# EAGLE library part ORG447X (library X893)
http://www.origingps.com/Download.aspx?fid=82
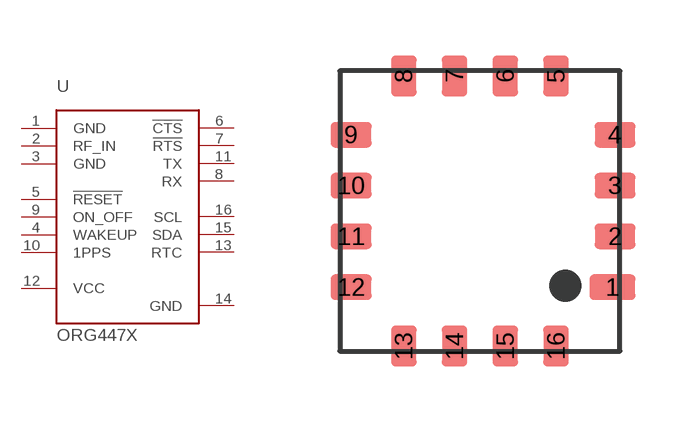
[diagram p155: symbol with the pads of ORG447X; footprint ORG447X]

Designator prefix U

## ORG447X  [ORG447X]
1  GND
2  RF_IN
3  GND
4  WAKEUP
5  !RESET
6  !CTS
7  !RTS
8  RX
9  ON_OFF
10  1PPS
11  TX
12  VCC
13  RTC
14  GND
15  SDA
16  SCL

## Footprint ORG447X (pad centres in mm)
smd 1.143 x 0.635: 1 3.314,-1.905
smd 1.016 x 0.635: 2 3.377,-0.635; 3 3.377,0.635; 4 3.377,1.905; 9 -3.223,1.905; 10 -3.223,0.635; 11 -3.223,-0.635; 12 -3.223,-1.905
smd 0.635 x 1.016: 5 1.905,3.377; 6 0.635,3.377; 7 -0.635,3.377; 8 -1.905,3.377; 13 -1.905,-3.377; 14 -0.635,-3.377; 15 0.635,-3.377; 16 1.905,-3.377